# Altium footprint library terminal.PcbLib: 49 footprints (part 1 of 4)
Each footprint in its own frame and in the unit in brackets; x right, y up, seen from the top. Pads: shape width x height; smd on the part's side, far side on the other; paste and mask are expansions set on the pad; w line width, h text height; cw(c..) or ccw(c..) is an arc to the next point about the centre after c.
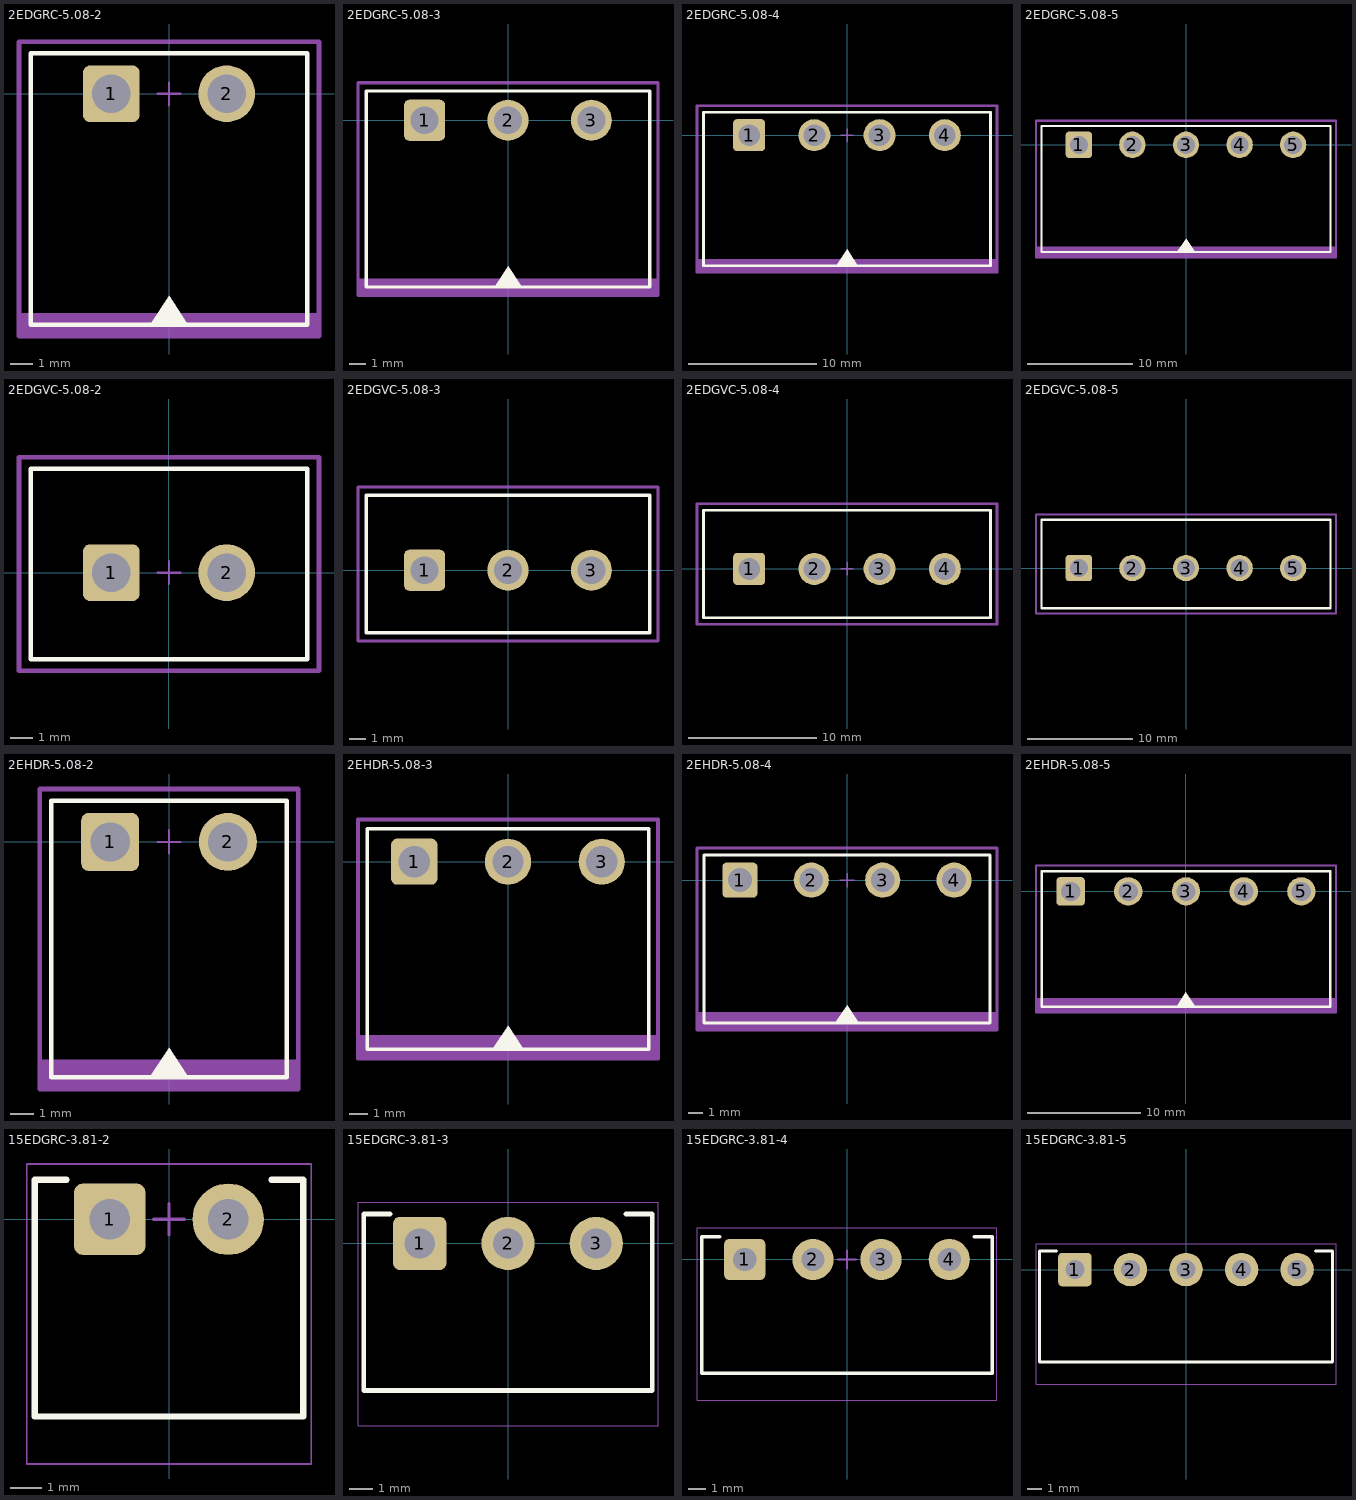
[diagram p0: the footprints below, top view; thin cyan lines are the x and y axes]

## 2EDGRC-5.08-2 [mm]
pads (2):
  rrect25% 2.5x2.5 hole 1.7: 1(-2.54,0)
  round 2.5 hole 1.7: 2(2.54,0)
Top Overlay:
  region: 0,-8.89 -0.762,-10.052 0.762,-10.052
  lines w0.2: -6.096,-10.16 -6.096,1.778 6.096,1.778 6.096,-10.16 -6.096,-10.16
Mechanical 13:
  region: 6.604,-10.668 6.604,-9.652 -6.604,-9.652 -6.604,-10.668
  lines w0.2: -6.604,-10.668 -6.604,2.286 6.604,2.286 6.604,-10.668 -6.604,-10.668
  text ".Designator" at -4.826,-5.334 h3
Mechanical 15:
  lines w0.05: -6.604,-10.668 6.604,-10.668 6.604,2.286 -6.604,2.286 -6.604,-10.668
  lines w0.1: -0.5,0 0.5,0 ; 0,-0.5 0,0.5
3D body "2EHDR-02.STEP": height 9.47, standoff -4, extent -5.08,-10.222 5.08,1.778

## 2EDGRC-5.08-3 [mm]
pads (3):
  rrect25% 2.5x2.5 hole 1.7: 1(-5.08,0)
  round 2.5 hole 1.7: 2(0,0) 3(5.08,0)
Top Overlay:
  region: 0,-8.89 -0.762,-10.052 0.762,-10.052
  lines w0.2: -8.636,-10.16 -8.636,1.778 8.636,1.778 8.636,-10.16 -8.636,-10.16
Mechanical 13:
  region: 9.144,-10.668 9.144,-9.652 -9.144,-9.652 -9.144,-10.668
  lines w0.2: -9.144,-10.668 9.144,-10.668 9.144,2.286 -9.144,2.286 -9.144,-10.668
  text ".Designator" at -4.826,-5.588 h3
Mechanical 15:
  lines w0.05: -9.144,-10.668 9.144,-10.668 9.144,2.286 -9.144,2.286 -9.144,-10.668
  lines w0.1: -0.5,0 0.5,0 ; 0,-0.5 0,0.5
3D body "2EHDR-03.STEP": height 9.47, standoff -4, extent -7.62,-10.222 7.62,1.778

## 2EDGRC-5.08-4 [mm]
pads (4):
  rrect25% 2.5x2.5 hole 1.7: 1(-7.62,0)
  round 2.5 hole 1.7: 2(-2.54,0) 3(2.54,0) 4(7.62,0)
Top Overlay:
  region: 0,-8.89 -0.762,-10.052 0.762,-10.052
  lines w0.2: -11.176,-10.16 11.176,-10.16 11.176,1.778 -11.176,1.778 -11.176,-10.16
Mechanical 13:
  region: 11.684,-10.668 11.684,-9.652 -11.684,-9.652 -11.684,-10.668
  lines w0.2: -11.684,-10.668 11.684,-10.668 11.684,2.286 -11.684,2.286 -11.684,-10.668
  text ".Designator" at -4.826,-5.334 h3
Mechanical 15:
  lines w0.05: -11.684,-10.668 -11.684,2.286 11.684,2.286 11.684,-10.668 -11.684,-10.668
  lines w0.1: -0.5,0 0.5,0 ; 0,-0.5 0,0.5
3D body "2EHDR-02.STEP": height 9.47, standoff -4, extent 0,-10.222 10.16,1.778
3D body "2EHDR-02.STEP": height 9.47, standoff -4, extent -10.16,-10.222 0,1.778

## 2EDGRC-5.08-5 [mm]
pads (5):
  rrect25% 2.5x2.5 hole 1.7: 1(-10.16,0)
  round 2.5 hole 1.7: 2(-5.08,0) 3(0,0) 4(5.08,0) 5(10.16,0)
Top Overlay:
  region: 0,-8.89 -0.762,-10.052 0.762,-10.052
  lines w0.2: -13.716,-10.16 -13.716,1.778 13.716,1.778 13.716,-10.16 -13.716,-10.16
Mechanical 13:
  region: 14.224,-10.668 14.224,-9.652 -14.224,-9.652 -14.224,-10.668
  lines w0.2: -14.224,-10.668 -14.224,2.286 14.224,2.286 14.224,-10.668 -14.224,-10.668
  text ".Designator" at -4.826,-5.334 h3
Mechanical 15:
  lines w0.05: -14.224,-10.668 14.224,-10.668 14.224,2.286 -14.224,2.286 -14.224,-10.668
  lines w0.1: -0.5,0 0.5,0 ; 0,-0.5 0,0.5
3D body "2EHDR-02.STEP": height 9.47, standoff -4, extent -12.7,-10.222 -2.54,1.778
3D body "2EHDR-03.STEP": height 9.47, standoff -4, extent -2.54,-10.222 12.7,1.778

## 2EDGVC-5.08-2 [mm]
pads (2):
  rrect25% 2.5x2.5 hole 1.7: 1(-2.54,0)
  round 2.5 hole 1.7: 2(2.54,0)
Top Overlay:
  lines w0.2: -6.096,-3.81 -6.096,4.572 6.096,4.572 6.096,-3.81 -6.096,-3.81
Mechanical 13:
  lines w0.2: -6.604,-4.318 6.604,-4.318 6.604,5.08 -6.604,5.08 -6.604,-4.318
  text ".Designator" at -4.826,-1.27 h3
Mechanical 15:
  lines w0.05: -6.604,-4.318 6.604,-4.318 6.604,5.08 -6.604,5.08 -6.604,-4.318
  lines w0.1: -0.5,0 0.5,0 ; 0,-0.5 0,0.5

## 2EDGVC-5.08-3 [mm]
pads (3):
  rrect25% 2.5x2.5 hole 1.7: 1(-5.08,0)
  round 2.5 hole 1.7: 2(0,0) 3(5.08,0)
Top Overlay:
  lines w0.2: -8.636,-3.81 8.636,-3.81 8.636,4.572 -8.636,4.572 -8.636,-3.81
Mechanical 13:
  lines w0.2: -9.144,-4.318 -9.144,5.08 9.144,5.08 9.144,-4.318 -9.144,-4.318
  text ".Designator" at -5.08,-1.524 h3
Mechanical 15:
  lines w0.05: -9.144,-4.318 -9.144,5.08 9.144,5.08 9.144,-4.318 -9.144,-4.318
  lines w0.1: -0.5,0 0.5,0 ; 0,-0.5 0,0.5

## 2EDGVC-5.08-4 [mm]
pads (4):
  rrect25% 2.5x2.5 hole 1.7: 1(-7.62,0)
  round 2.5 hole 1.7: 2(-2.54,0) 3(2.54,0) 4(7.62,0)
Top Overlay:
  lines w0.2: -11.176,-3.81 11.176,-3.81 11.176,4.572 -11.176,4.572 -11.176,-3.81
Mechanical 13:
  lines w0.2: -11.684,-4.318 11.684,-4.318 11.684,5.08 -11.684,5.08 -11.684,-4.318
  text ".Designator" at -4.826,-1.016 h3
Mechanical 15:
  lines w0.05: -11.684,-4.318 -11.684,5.08 11.684,5.08 11.684,-4.318 -11.684,-4.318
  lines w0.1: -0.5,0 0.5,0 ; 0,-0.5 0,0.5

## 2EDGVC-5.08-5 [mm]
pads (5):
  rrect25% 2.5x2.5 hole 1.7: 1(-10.16,0)
  round 2.5 hole 1.7: 2(-5.08,0) 3(0,0) 4(5.08,0) 5(10.16,0)
Top Overlay:
  lines w0.2: -13.716,-3.81 13.716,-3.81 13.716,4.572 -13.716,4.572 -13.716,-3.81
Mechanical 13:
  lines w0.2: -14.224,-4.318 14.224,-4.318 14.224,5.08 -14.224,5.08 -14.224,-4.318
  text ".Designator" at -4.826,-1.016 h3
Mechanical 15:
  lines w0.05: -14.224,-4.318 -14.224,5.08 14.224,5.08 14.224,-4.318 -14.224,-4.318
  lines w0.1: -0.5,0 0.5,0 ; 0,-0.5 0,0.5

## 2EHDR-5.08-2 [mm]
pads (2):
  rrect25% 2.5x2.5 hole 1.7: 1(-2.54,0)
  round 2.5 hole 1.7: 2(2.54,0)
Top Overlay:
  region: 0,-8.89 -0.762,-10.052 0.762,-10.052
  lines w0.2: -5.08,-10.16 5.08,-10.16 5.08,1.778 -5.08,1.778 -5.08,-10.16
Mechanical 13:
  region: -5.588,-10.668 -5.588,-9.398 5.588,-9.398 5.588,-10.668
  lines w0.2: -5.588,-10.668 -5.588,2.286 5.588,2.286 5.588,-10.668 -5.588,-10.668
  text ".Designator" at -4.826,-5.08 h3
Mechanical 15:
  lines w0.05: -5.588,-10.668 -5.588,2.286 5.588,2.286 5.588,-10.668 -5.588,-10.668
  lines w0.1: -0.5,0 0.5,0 ; 0,-0.5 0,0.5
3D body "2EHDR-02.STEP": height 9.47, standoff -4, extent -5.08,-10.222 5.08,1.778

## 2EHDR-5.08-3 [mm]
pads (3):
  rrect25% 2.5x2.5 hole 1.7: 1(-5.08,0)
  round 2.5 hole 1.7: 2(0,0) 3(5.08,0)
Top Overlay:
  region: 0,-8.89 -0.762,-10.052 0.762,-10.052
  lines w0.2: -7.62,-10.16 -7.62,1.778 7.62,1.778 7.62,-10.16 -7.62,-10.16
Mechanical 13:
  region: -8.128,-10.668 -8.128,-9.398 8.128,-9.398 8.128,-10.668
  lines w0.2: -8.128,-10.668 -8.128,2.286 8.128,2.286 8.128,-10.668 -8.128,-10.668
  text ".Designator" at -4.826,-5.588 h3
Mechanical 15:
  lines w0.05: -8.128,-10.668 8.128,-10.668 8.128,2.286 -8.128,2.286 -8.128,-10.668
  lines w0.1: -0.5,0 0.5,0 ; 0,-0.5 0,0.5
3D body "2EHDR-03.STEP": height 9.47, standoff -4, extent -7.62,-10.222 7.62,1.778

## 2EHDR-5.08-4 [mm]
pads (4):
  rrect25% 2.5x2.5 hole 1.7: 1(-7.62,0)
  round 2.5 hole 1.7: 2(-2.54,0) 3(2.54,0) 4(7.62,0)
Top Overlay:
  region: 0,-8.89 -0.762,-10.052 0.762,-10.052
  lines w0.2: -10.16,-10.16 10.16,-10.16 10.16,1.778 -10.16,1.778 -10.16,-10.16
Mechanical 13:
  region: -10.668,-10.668 -10.668,-9.398 10.668,-9.398 10.668,-10.668
  lines w0.2: -10.668,-10.668 -10.668,2.286 10.668,2.286 10.668,-10.668 -10.668,-10.668
  text ".Designator" at -4.826,-5.334 h3
Mechanical 15:
  lines w0.05: -10.668,-10.668 -10.668,2.286 10.668,2.286 10.668,-10.668 -10.668,-10.668
  lines w0.1: -0.5,0 0.5,0 ; 0,-0.5 0,0.5
3D body "2EHDR-02.STEP": height 9.47, standoff -4, extent 0,-10.222 10.16,1.778
3D body "2EHDR-02.STEP": height 9.47, standoff -4, extent -10.16,-10.222 0,1.778

## 2EHDR-5.08-5 [mm]
pads (5):
  rrect25% 2.5x2.5 hole 1.7: 1(-10.16,0)
  round 2.5 hole 1.7: 2(-5.08,0) 3(0,0) 4(5.08,0) 5(10.16,0)
Top Overlay:
  region: 0,-8.89 -0.762,-10.052 0.762,-10.052
  lines w0.2: -12.7,-10.16 -12.7,1.778 12.7,1.778 12.7,-10.16 -12.7,-10.16
Mechanical 13:
  region: -13.208,-10.668 -13.208,-9.398 13.208,-9.398 13.208,-10.668
  lines w0.2: -13.208,-10.668 -13.208,2.286 13.208,2.286 13.208,-10.668 -13.208,-10.668
  text ".Designator" at -4.826,-5.588 h3
Mechanical 15:
  lines w0.05: -13.208,-10.668 13.208,-10.668 13.208,2.286 -13.208,2.286 -13.208,-10.668
  lines w0.1: -0.5,0 0.5,0 ; 0,-0.5 0,0.5
3D body "2EHDR-02.STEP": height 9.47, standoff -4, extent -12.7,-10.222 -2.54,1.778
3D body "2EHDR-03.STEP": height 9.47, standoff -4, extent -2.54,-10.222 12.7,1.778

## 15EDGRC-3.81-2 [mm]
pads (2):
  rrect25% 2.3x2.3 hole 1.3: 1(-1.905,0)
  round 2.3 hole 1.3: 2(1.905,0)
Top Overlay:
  lines w0.2: -3.302,1.27 -4.318,1.27 -4.318,-6.35 4.318,-6.35 4.318,1.27 3.302,1.27
Mechanical 15:
  lines w0.05: -4.572,-7.874 4.572,-7.874 4.572,1.778 -4.572,1.778 -4.572,-7.874
  lines w0.1: -0.5,0 0.5,0 ; 0,-0.5 0,0.5

## 15EDGRC-3.81-3 [mm]
pads (3):
  rrect25% 2.3x2.3 hole 1.3: 1(-3.81,0)
  round 2.3 hole 1.3: 2(0,0) 3(3.81,0)
Top Overlay:
  lines w0.2: -5.08,1.27 -6.223,1.27 -6.223,-6.35 6.223,-6.35 6.223,1.27 5.08,1.27
Mechanical 15:
  lines w0.05: -6.477,-7.874 -6.477,1.778 6.477,1.778 6.477,-7.874 -6.477,-7.874
  lines w0.1: -0.5,0 0.5,0 ; 0,-0.5 0,0.5

## 15EDGRC-3.81-4 [mm]
pads (4):
  rrect25% 2.3x2.3 hole 1.3: 1(-5.715,0)
  round 2.3 hole 1.3: 2(-1.905,0) 3(1.905,0) 4(5.715,0)
Top Overlay:
  lines w0.2: -7.112,1.27 -8.128,1.27 -8.128,-6.35 8.128,-6.35 8.128,1.27 7.112,1.27
Mechanical 15:
  lines w0.05: -8.382,-7.874 -8.382,1.778 8.382,1.778 8.382,-7.874 -8.382,-7.874
  lines w0.1: -0.5,0 0.5,0 ; 0,-0.5 0,0.5

## 15EDGRC-3.81-5 [mm]
pads (5):
  rrect25% 2.3x2.3 hole 1.3: 1(-7.62,0)
  round 2.3 hole 1.3: 2(-3.81,0) 3(0,0) 4(3.81,0) 5(7.62,0)
Top Overlay:
  lines w0.2: -8.89,1.27 -10.033,1.27 -10.033,-6.35 10.033,-6.35 10.033,1.27 8.89,1.27
Mechanical 15:
  lines w0.05: -10.287,-7.874 -10.287,1.778 10.287,1.778 10.287,-7.874 -10.287,-7.874
  lines w0.1: -0.5,0 0.5,0 ; 0,-0.5 0,0.5